# Altium schematic symbol library TPS259472ARPWR.SchLib: 1 symbol
Pins are listed as number, name and electrical type; pins without a type are passive.

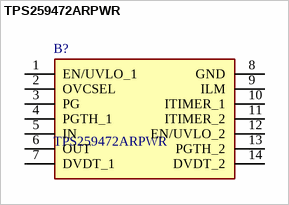
[diagram p0: symbol TPS259472ARPWR]

## TPS259472ARPWR
designator B?
Hot Swap Voltage Controllers 2.7-V to 23-V, 28-m?, 5.5-A eFuse with integrated reverse polarity protection; Manufacturer_Name: Texas Instruments; Geometry.Height: 1mm; Mouser Part Number: 595-TPS259472ARPWR; Mouser Price/Stock: https://www.mouser.co.uk/ProductDetail/Texas-Instruments/TPS259472ARPWR?qs=iLbezkQI%252BshCnrYg81AACA%3D%3D; Manufacturer_Part_Number: TPS259472ARPWR; Datasheet Link: https://www.ti.com/lit/ds/symlink/tps25947.pdf?ts=1761904658681&ref_url=https%253A%252F%252Fwww.mouser.tw%252F
footprint TPS259472ARPWR
pins: 1 EN/UVLO_1, 2 OVCSEL, 3 PG, 4 PGTH_1, 5 IN, 6 OUT, 7 DVDT_1, 8 GND, 9 ILM, 10 ITIMER_1, 11 ITIMER_2, 12 EN/UVLO_2, 13 PGTH_2, 14 DVDT_2